# EAGLE library part IDC_RECEPTACLE_2X5 (library con-cable)
Keyed, shrouded, vertical, 2x5, 0.100" pitch, Sullins SBH11-PBPC-D05-ST
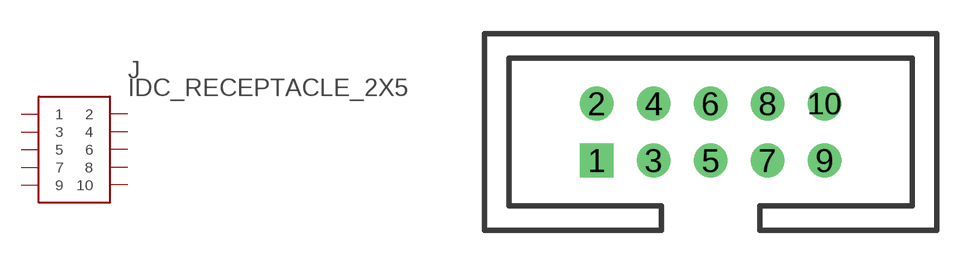
[diagram p0: symbol with the pads of CONN_IDC_2X5_0.100; footprint CONN_IDC_2X5_0.100]

Designator prefix J

## IDC_RECEPTACLE_2X5-S9169-ND  [CONN_IDC_2X5_0.100]
1  1
2  2
3  3
4  4
5  5
6  6
7  7
8  8
9  9
10  10

## Footprint CONN_IDC_2X5_0.100 (pad centres in mm)
Shrouded, Keyed, Vertical, 0.1", 2x5, IDC connector, Sullins SBH11-PBPC-D05-ST, S9169-ND
drill 0.991 square: 1 -5.08,-1.27
drill 0.991: 2 -5.08,1.27; 3 -2.54,-1.27; 4 -2.54,1.27; 5 0,-1.27; 6 0,1.27; 7 2.54,-1.27; 8 2.54,1.27; 9 5.08,-1.27; 10 5.08,1.27